# Altium integrated library USST2016.IntLib: 1 symbol
Pins are listed as number, name and electrical type; pins without a type are passive.

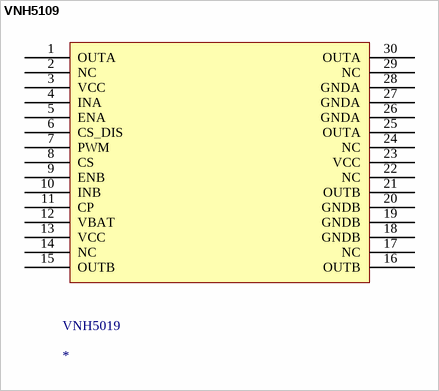
[diagram p0: symbol VNH5109]

## VNH5109
designator VNH5019
footprint VNH5019 (MultiPowerSO-30)
pins: 1 OUTA, 2 NC, 3 VCC, 4 INA, 5 ENA, 6 CS_DIS, 7 PWM, 8 CS, 9 ENB, 10 INB, 11 CP, 12 VBAT, 13 VCC, 14 NC, 15 OUTB, 16 OUTB, 17 NC, 18 GNDB, 19 GNDB, 20 GNDB, 21 OUTB, 22 NC, 23 VCC, 24 NC, 25 OUTA, 26 GNDA, 27 GNDA, 28 GNDA, 29 NC, 30 OUTA